# EAGLE library part OPT3001 (library Radio Projekt)
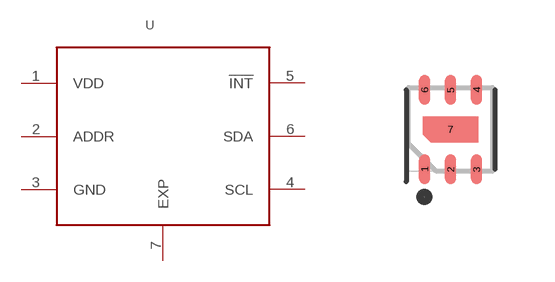
[diagram p3: symbol with the pads of SON65P200X200X65-7T66X136N; footprint SON65P200X200X65-7T66X136N]

Designator prefix -

## OPT3001  [SON65P200X200X65-7T66X136N]
1  VDD
2  ADDR
3  GND
4  SCL
5  !INT
6  SDA
7  EXP

## Footprint SON65P200X200X65-7T66X136N (pad centres in mm)
Small Outline No-Lead (SON with Tab), 0.65 mm pitch;6 pin,2.00 mm L X 2.00 mm W X 0.65 mm H body PCB Libraries Packages
smd 0.27 x 0.74: 1 -0.65,-0.995; 2 0,-0.995; 3 0.65,-0.995; 4 0.65,0.995; 5 0,0.995; 6 -0.65,0.995
smd 0.96 x 0.26: 7 0,0